# EAGLE library part MICROCONTROLLER (library Microprocessor)
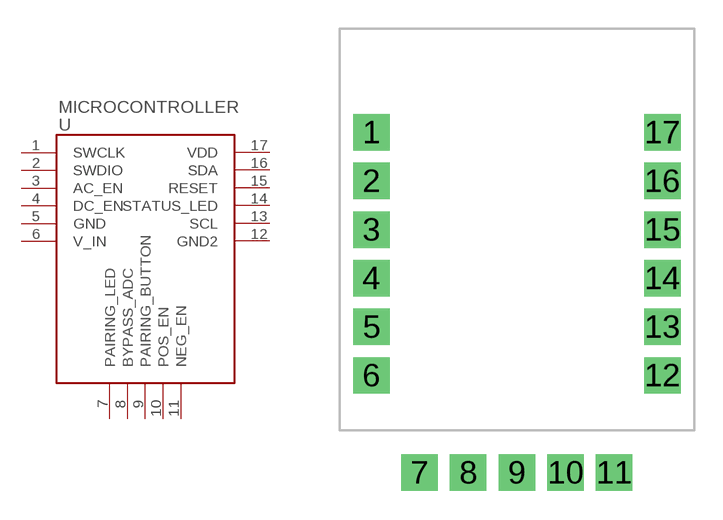
[diagram p0: symbol with the pads of MICROPROC; footprint MICROPROC]

Designator prefix -

## MICROCONTROLLER  [MICROPROC]
1  SWCLK
2  SWDIO
3  AC_EN
4  DC_EN
5  GND
6  V_IN
7  PAIRING_LED
8  BYPASS_ADC
9  PAIRING_BUTTON
10  POS_EN
11  NEG_EN
12  GND2
13  SCL
14  STATUS_LED
15  RESET
16  SDA
17  VDD

## Footprint MICROPROC (pad centres in mm)
drill 1 pad 1.905 square: 1 -7.593,5.08; 2 -7.593,2.54; 3 -7.593,0; 4 -7.593,-2.54; 5 -7.593,-5.08; 6 -7.593,-7.62; 7 -5.08,-12.7; 8 -2.54,-12.7; 9 0,-12.7; 10 2.54,-12.7; 11 5.08,-12.7; 12 7.593,-7.62; 13 7.593,-5.08; 14 7.593,-2.54; 15 7.593,0; 16 7.593,2.54; 17 7.593,5.08